# Altium integrated library D-Schottky-MBR0520.IntLib: 1 symbol
Pins are listed as number, name and electrical type; pins without a type are passive.

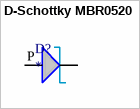
[diagram p0: symbol D-Schottky MBR0520]

## D-Schottky MBR0520
designator D?
footprint SOD123
pins: N, P